# EAGLE library part IN-P55TATRGB (library IN-P55TATRGB)
Red, Green, Blue (RGB) 624nm Red, 520nm Green, 468nm Blue LED Indication - Discrete 2V Red, 3.2V Green, 3.2V Blue 6-SMD, J-Lead Buy Part <https://snapeda.com/parts/IN-P55TATRGB/Inolux/view-part/?ref=eda>
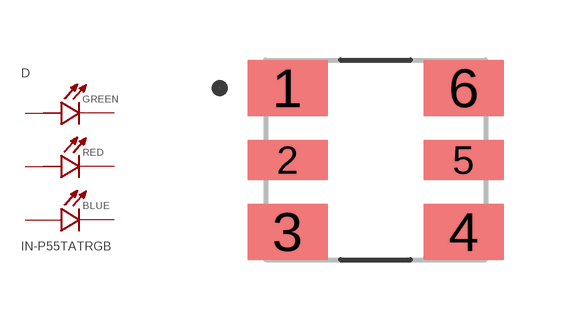
[diagram p0: symbol with the pads of LED_IN-P55TATRGB; footprint LED_IN-P55TATRGB]

Designator prefix D

## IN-P55TATRGB (Availability: Warning; Description: Red, Green, Blue (RGB) 624nm Red, 520nm Green, 468nm Blue LED Indication - Discrete 2V Red, 3.2V Green, 3.2V Blue 6-SMD, J-Lead; MF: Inolux; MP: IN-P55TATRGB; Mouser-Purchase-URL: https://snapeda.com/shop?store=Mouser&id=3600412; Package: SMD-6 Inolux; Price: None)  [LED_IN-P55TATRGB]
1  B_C  pas
2  R_C  pas
3  G_C  pas
4  G_A  pas
5  R_A  pas
6  B_A  pas

## Footprint LED_IN-P55TATRGB (pad centres in mm)
smd 2 x 1.4: 1 -2.2,1.8; 3 -2.2,-1.8; 4 2.2,-1.8; 6 2.2,1.8
smd 2 x 1: 2 -2.2,0; 5 2.2,0